# Altium footprint library SnapEDApcb.PcbLib: 1 footprints
Each footprint in its own frame and in the unit in brackets; x right, y up, seen from the top. Pads: shape width x height; smd on the part's side, far side on the other; paste and mask are expansions set on the pad; w line width, h text height; cw(c..) or ccw(c..) is an arc to the next point about the centre after c.
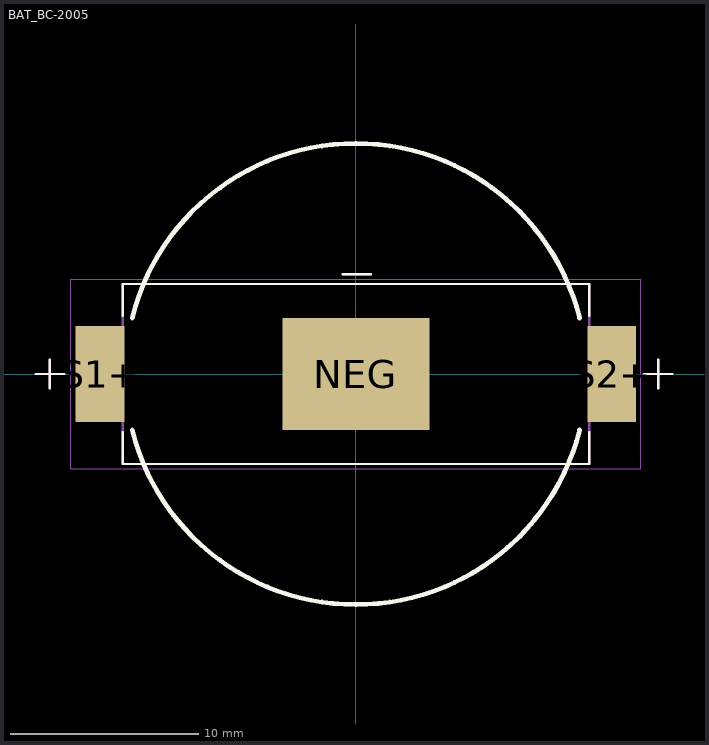
[diagram p0: the footprint, top view; thin cyan lines are the x and y axes]

## BAT_BC-2005 [mm]
pads (3):
  rect 7.8x5.96 smd paste-5: NEG(0,0)
  rect 2.6x5.08 smd: S1+(-13.59,0) S2+(13.59,0)
Top Overlay:
  lines w0.127: -17,0 -15.5,0 ; -16.25,-0.75 -16.25,0.75 ; -12.385,-3.1 -12.385,-4.78 12.385,-4.78 12.385,-3.1 ; -12.385,3.1 -12.385,4.78 12.385,4.78 12.385,3.1 ; -0.7,5.3 0.8,5.3 ; 15.3,0 16.8,0 ; 16.05,-0.75 16.05,0.75
  lines w0.254: -11.883,-2.974 ccw(c0,0) 11.883,-2.974 ; -11.883,2.974 cw(c0,0) 11.883,2.974
Mechanical 13:
  lines w0.127: -17,0 -15.5,0 ; -16.25,-0.75 -16.25,0.75 ; -0.7,5.3 0.8,5.3 ; 15.3,0 16.8,0 ; 16.05,-0.75 16.05,0.75 ; -12.385,-4.78 -12.385,4.78 12.385,4.78 12.385,-4.78 -12.385,-4.78
Mechanical 15:
  lines w0.05: -15.14,-5.03 -15.14,5.03 15.14,5.03 15.14,-5.03 -15.14,-5.03
3D body "BC-2005--3DModel-STEP-1.STEP": height 5.84, standoff 0, extent -14.73,-4.826 14.73,4.734